# Altium footprint library 2019-08-02_06-34-07.PcbLib: 3 footprints
Each footprint in its own frame and in the unit in brackets; x right, y up, seen from the top. Pads: shape width x height; smd on the part's side, far side on the other; paste and mask are expansions set on the pad; w line width, h text height; cw(c..) or ccw(c..) is an arc to the next point about the centre after c.
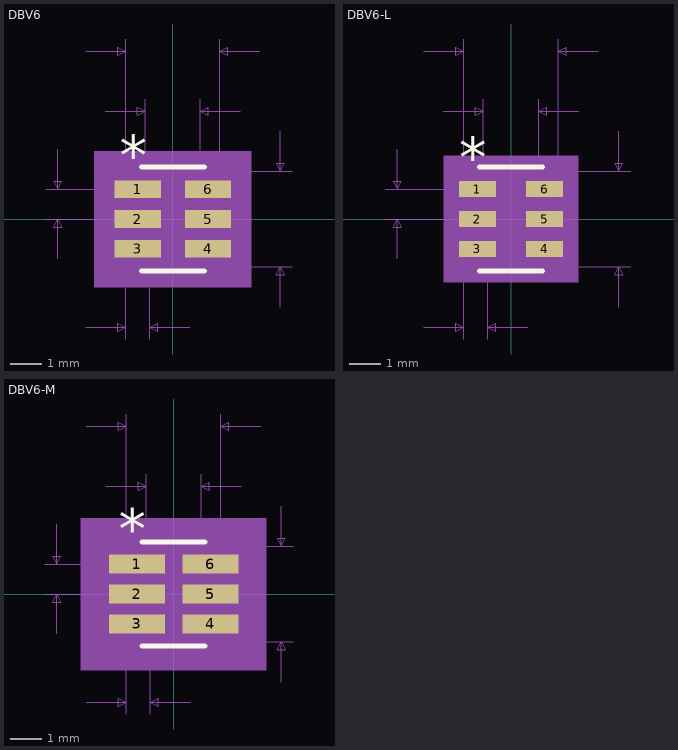
[diagram p0: the footprints below, top view; thin cyan lines are the x and y axes]

## DBV6 [mil]
pads (6):
  rect 58x22 smd paste+0 mask+0: 1(-44,37.4) 2(-44,0) 3(-44,-37.4) 4(44,-37.4) 5(44,0) 6(44,37.4)
Top Overlay:
  lines w6: -39.5,-65 39.5,-65 ; -39.5,65 39.5,65
  text "*" at -66.5,54.4 h50
Mechanical 5:
  region: 98,-85 -98,-85 -98,85 98,85
Mechanical 7:
  lines w1: -159,0 -44,0 ; -159,37.4 -44,37.4 ; -144,-50 -144,0 ; -144,87.4 -144,37.4 ; -109,-135 -59,-135 ; -109,210 -59,210 ; -84.5,135 -34.5,135 ; -59,-150 -59,0 -59,225 ; -34.5,0 -34.5,150 ; -29,-150 -29,0 ; 0,-60 149.5,-60 ; 0,60 149.5,60 ; 21,-135 -29,-135 ; 34.5,0 34.5,150 ; 59,0 59,225 ; 84.5,135 34.5,135 ; 109,210 59,210 ; 134.5,-110 134.5,-60 ; 134.5,110 134.5,60 ; -144,0 -139,-10 -149,-10 -144,0 ; -144,37.4 -139,47.4 -149,47.4 -144,37.4 ; -59,-135 -69,-140 -69,-130 -59,-135 ; -59,210 -69,205 -69,215 -59,210 ; -34.5,135 -44.5,130 -44.5,140 -34.5,135 ; -29,-135 -19,-140 -19,-130 -29,-135 ; 34.5,135 44.5,130 44.5,140 34.5,135 ; 59,210 69,205 69,215 59,210 ; 134.5,-60 139.5,-70 129.5,-70 134.5,-60 ; 134.5,60 139.5,70 129.5,70 134.5,60
  text "0.022in/0.559mm" at -137.75,-180 h25
  text "0.037in/0.95mm" at -339,6.2 h25
  text "0.12in/3.048mm" at 154.5,-12.5 h25
  text "0.118in/2.997mm" at -93.75,230 h25
  text "0.069in/1.753mm" at -93.75,155 h25
  text "Alt 2 Padstyle: OX90Y60D30P" at -337.5,-560 h50
  text "Alt 1 Padstyle: OX60Y90D30P" at -337.5,-500 h50
  text "Pin One Padstyle: RX58Y22D0T" at -350,-320 h50
  text "Default Padstyle: RX58Y22D0T" at -350,-260 h50
Mechanical 13:
  lines w0: -12,60 ccw(c0,60) 12,60
  lines w1: -59,-47.4 -34.5,-47.4 -34.5,-27.4 -59,-27.4 -59,-47.4 ; -59,-10 -34.5,-10 -34.5,10 -59,10 -59,-10 ; -59,27.4 -34.5,27.4 -34.5,47.4 -59,47.4 -59,27.4 ; -34.5,-60 -34.5,60 34.5,60 34.5,-60 -34.5,-60 ; 34.5,-47.4 59,-47.4 59,-27.4 34.5,-27.4 34.5,-47.4 ; 34.5,-10 59,-10 59,10 34.5,10 34.5,-10 ; 34.5,27.4 59,27.4 59,47.4 34.5,47.4 34.5,27.4
  text "*" at -32,7 h50
Mechanical 15:
  region: -44.5,-58.4 -83,-58.4 -83,58.4 -44.5,58.4 -44.5,70 44.5,70 44.5,58.4 83,58.4 83,-58.4 44.5,-58.4 44.5,-70 -44.5,-70
  lines w6: -83,-58.4 -44.5,-58.4 -44.5,-70 44.5,-70 44.5,-58.4 83,-58.4 83,58.4 44.5,58.4 44.5,70 -44.5,70 -44.5,58.4 -83,58.4 -83,-58.4
3D body "DBV6.step": height 57.09, standoff 0, extent -59.01,-59.99 59.02,60.01
3D body: height 10, standoff 0, extent 0,0 10,10

## DBV6-L [mil]
pads (6):
  rect 46x20 smd paste+0 mask+0: 1(-42,37.4) 2(-42,0) 3(-42,-37.4) 4(42,-37.4) 5(42,0) 6(42,37.4)
Top Overlay:
  lines w6: -39.5,-65 39.5,-65 ; -39.5,65 39.5,65
  text "*" at -64.5,52.4 h50
Mechanical 5:
  region: 84,-79 -84,-79 -84,79 84,79
Mechanical 7:
  lines w1: -157,0 -42,0 ; -157,37.4 -42,37.4 ; -142,-50 -142,0 ; -142,87.4 -142,37.4 ; -109,-135 -59,-135 ; -109,210 -59,210 ; -84.5,135 -34.5,135 ; -59,-150 -59,0 -59,225 ; -34.5,0 -34.5,150 ; -29,-150 -29,0 ; 0,-60 149.5,-60 ; 0,60 149.5,60 ; 21,-135 -29,-135 ; 34.5,0 34.5,150 ; 59,0 59,225 ; 84.5,135 34.5,135 ; 109,210 59,210 ; 134.5,-110 134.5,-60 ; 134.5,110 134.5,60 ; -142,0 -137,-10 -147,-10 -142,0 ; -142,37.4 -137,47.4 -147,47.4 -142,37.4 ; -59,-135 -69,-140 -69,-130 -59,-135 ; -59,210 -69,205 -69,215 -59,210 ; -34.5,135 -44.5,130 -44.5,140 -34.5,135 ; -29,-135 -19,-140 -19,-130 -29,-135 ; 34.5,135 44.5,130 44.5,140 34.5,135 ; 59,210 69,205 69,215 59,210 ; 134.5,-60 139.5,-70 129.5,-70 134.5,-60 ; 134.5,60 139.5,70 129.5,70 134.5,60
  text "0.022in/0.559mm" at -137.75,-180 h25
  text "0.037in/0.95mm" at -337,6.2 h25
  text "0.12in/3.048mm" at 154.5,-12.5 h25
  text "0.118in/2.997mm" at -93.75,230 h25
  text "0.069in/1.753mm" at -93.75,155 h25
  text "Alt 2 Padstyle: OX90Y60D30P" at -337.5,-560 h50
  text "Alt 1 Padstyle: OX60Y90D30P" at -337.5,-500 h50
  text "Pin One Padstyle: RX46Y20D0T" at -350,-320 h50
  text "Default Padstyle: RX46Y20D0T" at -350,-260 h50
Mechanical 13:
  lines w0: -12,60 ccw(c0,60) 12,60
  lines w1: -59,-47.4 -34.5,-47.4 -34.5,-27.4 -59,-27.4 -59,-47.4 ; -59,-10 -34.5,-10 -34.5,10 -59,10 -59,-10 ; -59,27.4 -34.5,27.4 -34.5,47.4 -59,47.4 -59,27.4 ; -34.5,-60 -34.5,60 34.5,60 34.5,-60 -34.5,-60 ; 34.5,-47.4 59,-47.4 59,-27.4 34.5,-27.4 34.5,-47.4 ; 34.5,-10 59,-10 59,10 34.5,10 34.5,-10 ; 34.5,27.4 59,27.4 59,47.4 34.5,47.4 34.5,27.4
  text "*" at -32,7 h50
Mechanical 15:
  region: -38.5,-51.4 -69,-51.4 -69,51.4 -38.5,51.4 -38.5,64 38.5,64 38.5,51.4 69,51.4 69,-51.4 38.5,-51.4 38.5,-64 -38.5,-64
  lines w6: -69,-51.4 -38.5,-51.4 -38.5,-64 38.5,-64 38.5,-51.4 69,-51.4 69,51.4 38.5,51.4 38.5,64 -38.5,64 -38.5,51.4 -69,51.4 -69,-51.4
3D body: height 10, standoff 0, extent 0,0 10,10

## DBV6-M [mil]
pads (6):
  rect 70x24 smd paste+0 mask+0: 1(-46,37.4) 2(-46,0) 3(-46,-37.4) 4(46,-37.4) 5(46,0) 6(46,37.4)
Top Overlay:
  lines w6: -39.5,-65 39.5,-65 ; -39.5,65 39.5,65
  text "*" at -68.5,56.4 h50
Mechanical 5:
  region: 116,-95 -116,-95 -116,95 116,95
Mechanical 7:
  lines w1: -161,0 -46,0 ; -161,37.4 -46,37.4 ; -146,-50 -146,0 ; -146,87.4 -146,37.4 ; -109,-135 -59,-135 ; -109,210 -59,210 ; -84.5,135 -34.5,135 ; -59,-150 -59,0 -59,225 ; -34.5,0 -34.5,150 ; -29,-150 -29,0 ; 0,-60 149.5,-60 ; 0,60 149.5,60 ; 21,-135 -29,-135 ; 34.5,0 34.5,150 ; 59,0 59,225 ; 84.5,135 34.5,135 ; 109,210 59,210 ; 134.5,-110 134.5,-60 ; 134.5,110 134.5,60 ; -146,0 -151,-10 -141,-10 -146,0 ; -146,37.4 -151,47.4 -141,47.4 -146,37.4 ; -59,-135 -69,-130 -69,-140 -59,-135 ; -59,210 -69,215 -69,205 -59,210 ; -34.5,135 -44.5,140 -44.5,130 -34.5,135 ; -29,-135 -19,-130 -19,-140 -29,-135 ; 34.5,135 44.5,140 44.5,130 34.5,135 ; 59,210 69,215 69,205 59,210 ; 134.5,-60 129.5,-70 139.5,-70 134.5,-60 ; 134.5,60 129.5,70 139.5,70 134.5,60
  text "Default Padstyle: RX70Y24D0T" at -350,-260 h50
  text "Pin One Padstyle: RX70Y24D0T" at -350,-320 h50
  text "Alt 1 Padstyle: OX60Y90D30P" at -337.5,-500 h50
  text "Alt 2 Padstyle: OX90Y60D30P" at -337.5,-560 h50
  text "0.069in/1.753mm" at -93.75,155 h25
  text "0.118in/2.997mm" at -93.75,230 h25
  text "0.12in/3.048mm" at 154.5,-12.5 h25
  text "0.037in/0.95mm" at -341,6.2 h25
  text "0.022in/0.559mm" at -137.75,-180 h25
Mechanical 13:
  lines w0: -12,60 ccw(c0,60) 12,60
  lines w1: -59,-47.4 -59,-27.4 -34.5,-27.4 -34.5,-47.4 -59,-47.4 ; -59,-10 -59,10 -34.5,10 -34.5,-10 -59,-10 ; -59,27.4 -59,47.4 -34.5,47.4 -34.5,27.4 -59,27.4 ; -34.5,-60 34.5,-60 34.5,60 -34.5,60 -34.5,-60 ; 34.5,-47.4 34.5,-27.4 59,-27.4 59,-47.4 34.5,-47.4 ; 34.5,-10 34.5,10 59,10 59,-10 34.5,-10 ; 34.5,27.4 34.5,47.4 59,47.4 59,27.4 34.5,27.4
  text "*" at -32,7 h50
Mechanical 15:
  region: -54.5,-69.4 -101,-69.4 -101,69.4 -54.5,69.4 -54.5,80 54.5,80 54.5,69.4 101,69.4 101,-69.4 54.5,-69.4 54.5,-80 -54.5,-80
  lines w6: -101,-69.4 -101,69.4 -54.5,69.4 -54.5,80 54.5,80 54.5,69.4 101,69.4 101,-69.4 54.5,-69.4 54.5,-80 -54.5,-80 -54.5,-69.4 -101,-69.4
3D body: height 10, standoff 0, extent 0,0 10,10